# Altium schematic symbol library SCH - POWER - LINEAR VREG - TI LM2941S.SchLib: 1 symbol
Pins are listed as number, name and electrical type; pins without a type are passive.

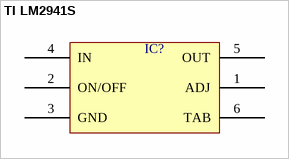
[diagram p0: symbol TI LM2941S]

## TI LM2941S
designator IC?  (value not drawn)
pins: 1 ADJ, 2 ON/OFF, 3 GND, 4 IN, 5 OUT, 6 TAB